# Altium footprint library SM_DIODE_POWERDI123-12.PcbLib: 1 footprints
Each footprint in its own frame and in the unit in brackets; x right, y up, seen from the top. Pads: shape width x height; smd on the part's side, far side on the other; paste and mask are expansions set on the pad; w line width, h text height; cw(c..) or ccw(c..) is an arc to the next point about the centre after c.
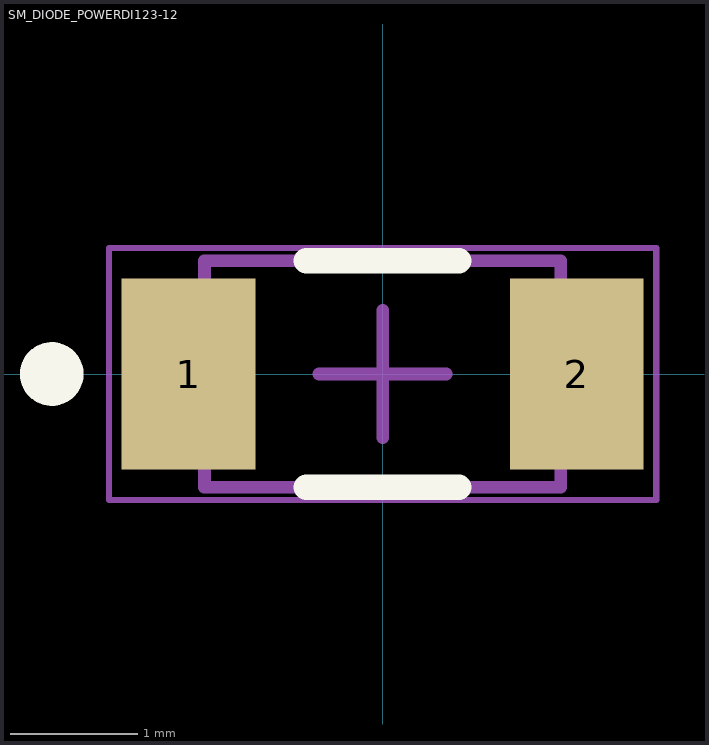
[diagram p0: the footprint, top view; thin cyan lines are the x and y axes]

## SM_DIODE_POWERDI123-12 [mm] "SOD, 2-Leads, Body 2.8x1.78mm"
height 1
pads (2):
  rect 1.05x1.5 smd: 1(-1.525,0) 2(1.525,0)
Top Overlay:
  circle w0.25: c-2.6,0 r0.125
  lines w0.2: -0.6,-0.89 0.6,-0.89 ; -0.6,0.89 0.6,0.89
Mechanical 13:
  lines w0.1: -1.4,-0.89 1.4,-0.89 1.4,0.89 -1.4,0.89 -1.4,-0.89
Mechanical 15:
  lines w0.05: -2.15,-0.99 2.15,-0.99 2.15,0.99 -2.15,0.99 -2.15,-0.99
  lines w0.1: -0.5,0 0.5,0 ; 0,-0.5 0,0.5
3D body: height 1, standoff 0, extent -1.4,-0.89 1.4,0.89
3D body: height 1.01, standoff 1, extent 1.016,-0.889 1.27,0.89